# EAGLE library part MK22FN128VLH10 (library SparkFun-IC-Comms)
The Kinetis K22 product family members are optimized for costsensitive applications requiring low-power, USB connectivity, high peripheral integration and processing efficiency with a floating-point unit. These devices share the comprehensive enablement and scalability of the Kinetis family.
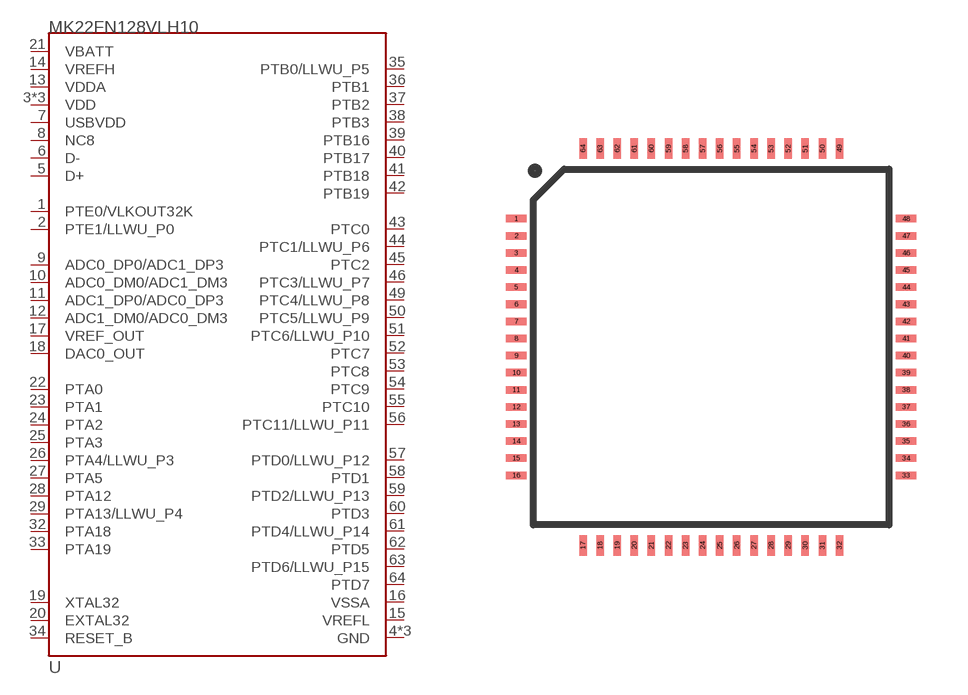
[diagram p23: symbol with the pads of LQFP-64; footprint LQFP-64]

Designator prefix U

## MK22FN128VLH10 (PROD_ID: IC-14611; VALUE: MK22FN128VLH10)  [LQFP-64]
1  PTE0/VLKOUT32K
2  PTE1/LLWU_P0
3  VDD
4  GND
5  D+
6  D-
7  USBVDD
8  NC8
9  ADC0_DP0/ADC1_DP3
10  ADC0_DM0/ADC1_DM3
11  ADC1_DP0/ADC0_DP3
12  ADC1_DM0/ADC0_DM3
13  VDDA
14  VREFH
15  VREFL
16  VSSA
17  VREF_OUT
18  DAC0_OUT
19  XTAL32
20  EXTAL32
21  VBATT
22  PTA0
23  PTA1
24  PTA2
25  PTA3
26  PTA4/LLWU_P3
27  PTA5
28  PTA12
29  PTA13/LLWU_P4
30  VDD
31  GND
32  PTA18
33  PTA19
34  RESET_B
35  PTB0/LLWU_P5
36  PTB1
37  PTB2
38  PTB3
39  PTB16
40  PTB17
41  PTB18
42  PTB19
43  PTC0
44  PTC1/LLWU_P6
45  PTC2
46  PTC3/LLWU_P7
47  GND
48  VDD
49  PTC4/LLWU_P8
50  PTC5/LLWU_P9
51  PTC6/LLWU_P10
52  PTC7
53  PTC8
54  PTC9
55  PTC10
56  PTC11/LLWU_P11
57  PTD0/LLWU_P12
58  PTD1
59  PTD2/LLWU_P13
60  PTD3
61  PTD4/LLWU_P14
62  PTD5
63  PTD6/LLWU_P15
64  PTD7

## Footprint LQFP-64 (pad centres in mm)
smd 0.6 x 0.22: 1 -5.7,3.75; 2 -5.7,3.25; 3 -5.7,2.75; 4 -5.7,2.25; 5 -5.7,1.75; 6 -5.7,1.25; 7 -5.7,0.75; 8 -5.7,0.25; 9 -5.7,-0.25; 10 -5.7,-0.75; 11 -5.7,-1.25; 12 -5.7,-1.75; 13 -5.7,-2.25; 14 -5.7,-2.75; 15 -5.7,-3.25; 16 -5.7,-3.75; 33 5.7,-3.75; 34 5.7,-3.25; 35 5.7,-2.75; 36 5.7,-2.25; 37 5.7,-1.75; 38 5.7,-1.25; 39 5.7,-0.75; 40 5.7,-0.25; 41 5.7,0.25; 42 5.7,0.75; 43 5.7,1.25; 44 5.7,1.75; 45 5.7,2.25; 46 5.7,2.75; 47 5.7,3.25; 48 5.7,3.75
smd 0.22 x 0.6: 17 -3.75,-5.8; 18 -3.25,-5.8; 19 -2.75,-5.8; 20 -2.25,-5.8; 21 -1.75,-5.8; 22 -1.25,-5.8; 23 -0.75,-5.8; 24 -0.25,-5.8; 25 0.25,-5.8; 26 0.75,-5.8; 27 1.25,-5.8; 28 1.75,-5.8; 29 2.25,-5.8; 30 2.75,-5.8; 31 3.25,-5.8; 32 3.75,-5.8; 49 3.75,5.8; 50 3.25,5.8; 51 2.75,5.8; 52 2.25,5.8; 53 1.75,5.8; 54 1.25,5.8; 55 0.75,5.8; 56 0.25,5.8; 57 -0.25,5.8; 58 -0.75,5.8; 59 -1.25,5.8; 60 -1.75,5.8; 61 -2.25,5.8; 62 -2.75,5.8; 63 -3.25,5.8; 64 -3.75,5.8